# Altium schematic symbol library 675031020.SchLib: 1 symbol
Pins are listed as number, name and electrical type; pins without a type are passive.

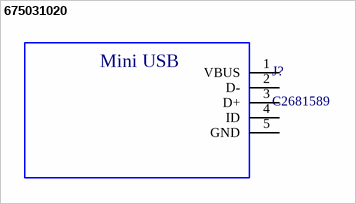
[diagram p0: symbol 675031020]

## 675031020
designator J?, comment C2681589
JLCPCB - C2681589; MF: Molex; MP: 675031020; SnapEDA_Link: https://www.snapeda.com/parts/675031020/Molex/view-part/?ref=snap; Package: None; Value: *; Check_prices: https://www.snapeda.com/parts/675031020/Molex/view-part/?ref=eda
footprint CON00317_5_MOL
pins: 1 VBUS, 2 D-, 3 D+, 4 ID, 5 GND
text: Mini USB